# Altium footprint library c0402.PcbLib: 1 footprints
Each footprint in its own frame and in the unit in brackets; x right, y up, seen from the top. Pads: shape width x height; smd on the part's side, far side on the other; paste and mask are expansions set on the pad; w line width, h text height; cw(c..) or ccw(c..) is an arc to the next point about the centre after c.
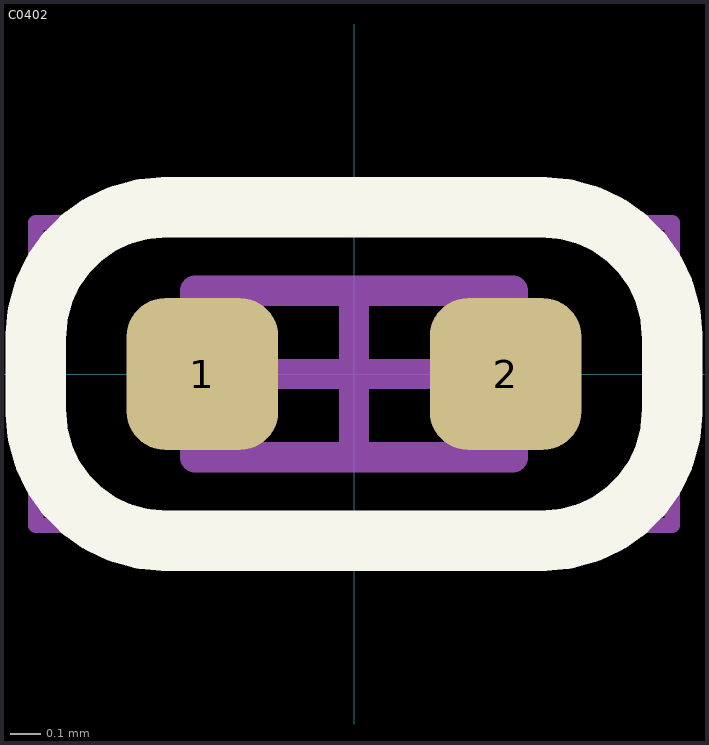
[diagram p0: the footprint, top view; thin cyan lines are the x and y axes]

## C0402 [mm] "Chip Capacitor, 2-Leads, Body 1,00x0,50mm, IPC Medium Density"
height 0.55
pads (2):
  rrect50% 0.5x0.5 smd: 1(-0.5,0) 2(0.5,0)
Top Overlay:
  lines w0.2: -1.05,-0.125 ccw(c-0.625,-0.125) -0.625,-0.55 0.625,-0.55 ccw(c0.625,-0.125) 1.05,-0.125 1.05,0.125 ccw(c0.625,0.125) 0.625,0.55 -0.625,0.55 ccw(c-0.625,0.125) -1.05,0.125 -1.05,-0.125
Top Comment:
  text ".Comment" at 0.7,0.7 h1.2
Top Designator:
  text ".Designator" at -0.3,0.7 h1.2
Top Component Outline:
  lines w0.1: -0.525,-0.275 0.525,-0.275 0.525,0.275 -0.525,0.275 -0.525,-0.275
Top Courtyard (Mech15):
  lines w0.05: -1.05,-0.5 1.05,-0.5 1.05,0.5 -1.05,0.5 -1.05,-0.5
  lines w0.1: -0.275,0 0.275,0 ; 0,-0.275 0,0.275
3D body "User Library-SMD CAPACITOR 0402.STEP": height 0.5, standoff 0, extent -0.5,-0.25 0.5,0.25